# EAGLE library part HEADER-1X12-FEMALE-PPTC121LFBN-RC (library openag-connectors)
CONN HEADER FEM 12POS.1" SGL TIN Description: 12 Position Header Connector 0.100" (2.54mm) Through Hole Tin Technical Specifications: Connector Type: Header Contact Type: Female Socket Style: Board to Board Number of Positions: 12 Number of Positions Loaded: All Pitch - Mating: 0.100" (2.54mm) Number of Rows: 1 Mounting Type: Through Hole Termination: Solder Fastening Type: Push-Pull Contact Finish - Mating: Tin Insulation Color: Black Insulation Height: 0.335" (8.51mm) Contact Length - Post: 0.126" (3.20mm) Operating Temperature: -40°C ~ 105°C Material Flammability Rating: UL94 V-0 Contact Finish - Post: Tin Current Rating: 3A Voltage Rating: 250V Insulation Material: Polyester Contact Shape: Square Contact Material: Phosphor Bronze Datasheet(s): xPxCyyyLFBN-RC Drawing <http://www.sullinscorp.com/drawings/78_P(N)PxCxxxLFBN-RC,_10492-H.pdf> Female Headers .100" Data Sheet <http://sullinscorp.com/catalogs/101_PAGE114-115_.100_FEMALE_HDR.pdf> Vendor(s): Digikey: S6100-ND <https://www.digikey.com/product-detail/en/sullins-connector-solutions/PPTC121LFBN-RC/S6100-ND/807231>
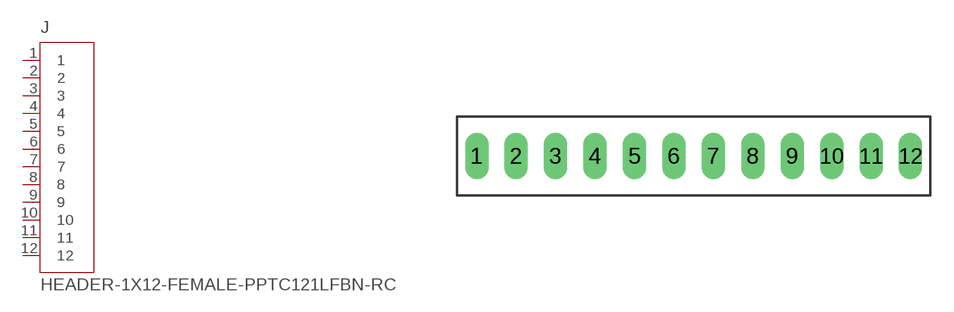
[diagram p5: symbol with the pads of HEADER-1X12; footprint HEADER-1X12]

Designator prefix J

## HEADER-1X12-FEMALE-PPTC121LFBN-RC (MANUFACTURER: Sullins Connector Solutions; MPN: PPTC121LFBN-RC; VALUE: PPTC121LFBN-RC; VENDOR: Digikey; VLINK: https://www.digikey.com/product-detail/en/sullins-connector-solutions/PPTC121LFBN-RC/S6100-ND/807231; VPN: S6100-ND)  [HEADER-1X12]
1  1
2  2
3  3
4  4
5  5
6  6
7  7
8  8
9  9
10  10
11  11
12  12

## Footprint HEADER-1X12 (pad centres in mm)
.100" (2.54mm) Center Header - 4 Pin
drill 1 long: 1 -13.97,0; 2 -11.43,0; 3 -8.89,0; 4 -6.35,0; 5 -3.81,0; 6 -1.27,0; 7 1.27,0; 8 3.81,0; 9 6.35,0; 10 8.89,0; 11 11.43,0; 12 13.97,0